# Altium footprint library Custom Footprint Lib.PcbLib: 10 footprints
Each footprint in its own frame and in the unit in brackets; x right, y up, seen from the top. Pads: shape width x height; smd on the part's side, far side on the other; paste and mask are expansions set on the pad; w line width, h text height; cw(c..) or ccw(c..) is an arc to the next point about the centre after c.
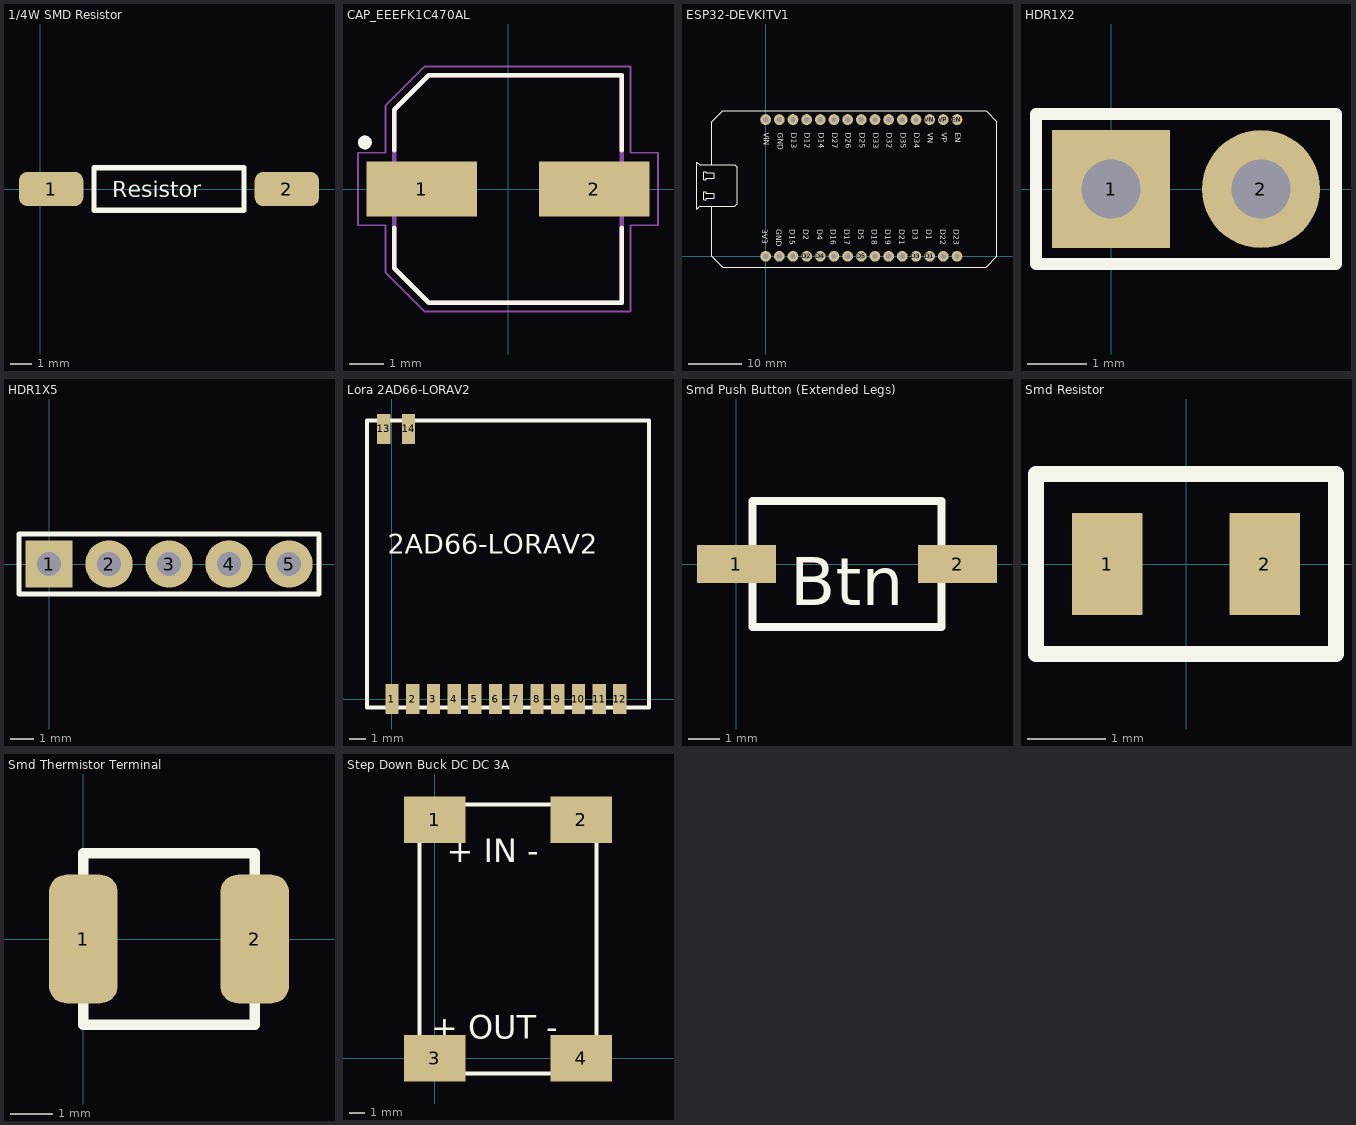
[diagram p0: the footprints below, top view; thin cyan lines are the x and y axes]

## 1/4W SMD Resistor [mm] "Footprint to use standard THC 1/4W Resistor"
height 5
pads (2):
  rrect50% 3x1.6 smd: 1(0.5,0) 2(11.5,0)
Top Overlay:
  lines w0.254: 2.5,-1 9.5,-1 9.5,1 2.5,1 2.5,-1
  text "Resistor" at 3.343,-0.393 h0.75

## CAP_EEEFK1C470AL [mm]
pads (2):
  rect 3.2x1.6 smd: 1(-2.5,0) 2(2.5,0)
Top Overlay:
  circle w0.2: c-4.15,1.35 r0.1
  lines w0.127: -3.3,-1.12 -3.3,-2.3 -2.3,-3.3 3.3,-3.3 3.3,-1.12 ; -3.3,1.12 -3.3,2.3 -2.3,3.3 3.3,3.3 3.3,1.12
Mechanical 13:
  circle w0.2: c-4.15,1.35 r0.1
  lines w0.127: -3.3,-2.3 -3.3,2.3 -2.3,3.3 3.3,3.3 3.3,-3.3 -2.3,-3.3 -3.3,-2.3
Mechanical 15:
  lines w0.05: -4.35,-1.05 -3.55,-1.05 -3.55,-2.425 -2.425,-3.55 3.55,-3.55 3.55,-1.05 4.35,-1.05 4.35,1.05 3.55,1.05 3.55,3.55 -2.425,3.55 -3.55,2.425 -3.55,1.05 -4.35,1.05 -4.35,-1.05
3D body "step_temp.STEP": height 5.8, standoff 0, extent -3.65,-3.3 3.65,3.3

## ESP32-DEVKITV1 [mm]
pads (30):
  round 2 hole 1: 3V3(0,0) D1(30.48,0) D2(7.62,0) D3(27.94,0) D4(10.16,0) D5(17.78,0) D12(7.62,25.4) D13(5.08,25.4) D14(10.16,25.4) D15(5.08,0) D16(12.7,0) D17(15.24,0) D18(20.32,0) D19(22.86,0) D21(25.4,0) D22(33.02,0) D23(35.56,0) D25(17.78,25.4) D26(15.24,25.4) D27(12.7,25.4) D32(22.86,25.4) D33(20.32,25.4) D34(27.94,25.4) D35(25.4,25.4) EN(35.56,25.4) GND(2.54,25.4) GND@1(2.54,0) VIN(0,25.4) VN(30.48,25.4) VP(33.02,25.4)
Top Overlay:
  lines w0.127: -10,9.25 -10,0 -8,-2 41,-2 43,0 43,25 41,27 -8,27 -10,25 -10,17 ; -10,9.25 -12.25,9.25 -12.75,8.75 -12.75,17.5 -12.25,17 -10,17 ; -10,9.25 -5.75,9.25 -5.25,9.75 -5.25,16.5 -5.75,17 -10,17 ; -11.5,10.5 -11,10.5 -11,10.75 -9.5,10.75 -9.5,11.75 -11,11.75 -11,12 -11.5,12 -11.5,10.5 ; -11.5,14.25 -11,14.25 -11,14.5 -9.5,14.5 -9.5,15.5 -11,15.5 -11,15.75 -11.5,15.75 -11.5,14.25
  text "3V3" at -0.6,5.04 h1.02
  text "GND" at 1.94,5.04 h1.02
  text "D15" at 4.48,5.04 h1.02
  text "D2" at 7.02,5.04 h1.02
  text "D4" at 9.56,5.04 h1.02
  text "D16" at 12.1,5.04 h1.02
  text "D17" at 14.64,5.04 h1.02
  text "D5" at 17.18,5.04 h1.02
  text "D18" at 19.72,5.04 h1.02
  text "D19" at 22.26,5.04 h1.02
  text "D21" at 24.8,5.04 h1.02
  text "D3" at 27.34,5.04 h1.02
  text "D1" at 29.88,5.04 h1.02
  text "D22" at 32.42,5.04 h1.02
  text "D23" at 34.96,5.04 h1.02
  text "VIN" at -0.33,22.97 h1.02
  text "GND" at 2.21,22.97 h1.02
  text "D13" at 4.75,22.97 h1.02
  text "D12" at 7.29,22.97 h1.02
  text "D14" at 9.83,22.97 h1.02
  text "D27" at 12.37,22.97 h1.02
  text "D26" at 14.91,22.97 h1.02
  text "D25" at 17.45,22.97 h1.02
  text "D33" at 19.99,22.97 h1.02
  text "D32" at 22.53,22.97 h1.02
  text "D35" at 25.07,22.97 h1.02
  text "D34" at 27.61,22.97 h1.02
  text "VN" at 30.15,22.97 h1.02
  text "VP" at 32.69,22.97 h1.02
  text "EN" at 35.23,22.97 h1.02
Mechanical 13:
  text "ESP32-DEVKITV1" at 26.36,-4.54 h1.27

## HDR1X2 [mm]
pads (2):
  rect 2x2 hole 1: 1(0,0)
  round 2 hole 1: 2(2.54,0)
Top Overlay:
  lines w0.2: -1.27,-1.27 -1.27,1.27 3.81,1.27 3.81,-1.27 -1.27,-1.27

## HDR1X5 [mm]
pads (5):
  rect 2x2 hole 1: 1(0,0)
  round 2 hole 1: 2(2.54,0) 3(5.08,0) 4(7.62,0) 5(10.16,0)
Top Overlay:
  lines w0.2: -1.27,-1.27 -1.27,1.27 11.43,1.27 11.43,-1.27 -1.27,-1.27

## Lora 2AD66-LORAV2 [mm] "Modulo 2AD66 loraWAN fabricado por G-NiceRF"
height 2.5
pads (14):
  rect 0.8x1.8 smd: 1(0,0) 2(1.25,0) 3(2.5,0) 4(3.75,0) 5(5,0) 6(6.25,0) 7(7.5,0) 8(8.75,0) 9(10,0) 10(11.25,0) 11(12.5,0) 12(13.75,0) 13(-0.5,16.3) 14(1,16.3)
Top Overlay:
  lines w0.254: -1.5,-0.5 15.5,-0.5 15.5,16.8 -1.5,16.8 -1.5,-0.5
  text "2AD66-LORAV2" at -0.246,8.754 h1.2

## Smd Push Button (Extended Legs) [mm] "Footprint for smd push button with extended legs"
height 3
pads (2):
  rect 2.5x1.2 smd: 1(0,0) 2(7,0)
Top Overlay:
  lines w0.254: 0.5,-2 6.5,-2 6.5,2 0.5,2 0.5,-2
  text "Btn" at 1.7,-1.3 h1.52

## Smd Resistor [mm]
pads (2):
  rect 0.9x1.3 smd: 1(-1,0) 2(1,0)
Top Overlay:
  lines w0.2: -1.905,-1.143 1.905,-1.143 1.905,1.143 -1.905,1.143 -1.905,-1.143

## Smd Thermistor Terminal [mm]
pads (2):
  rrect50% 1.6x3 smd: 1(0,0) 2(4,0)
Top Overlay:
  lines w0.254: 0,-2 0,2 4,2 4,-2 0,-2

## Step Down Buck DC DC 3A [mm] "Buck converter DC-DC 3A max"
height 10
pads (4):
  rect 4x3 smd: 1(0,15.5) 2(9.5,15.5) 3(0,0) 4(9.5,0)
Top Overlay:
  lines w0.254: -1,-1 10.5,-1 10.5,16.5 -1,16.5 -1,-1
  text "+ OUT -" at -0.246,1.254 h1.52
  text "+ IN -" at 0.754,12.754 h1.52